# Altium schematic symbol library IC_TPS54336.Schlib: 1 symbol
Pins are listed as number, name and electrical type; pins without a type are passive.

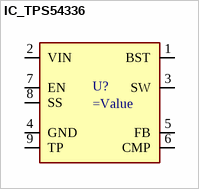
[diagram p0: symbol IC_TPS54336]

## IC_TPS54336
designator U?
pins: 1 BST, 2 VIN, 3 SW, 4 GND, 5 FB, 6 CMP, 7 EN, 8 SS, 9 TP